# EAGLE library part 1X9PINROW_MALE (library Logicar Rev 2 Lib)
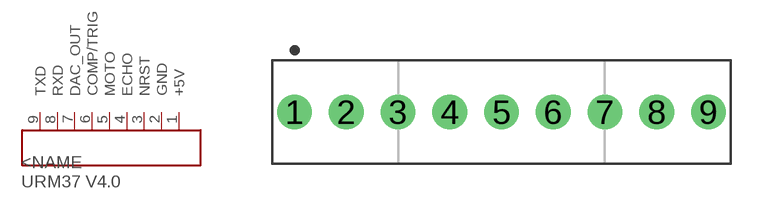
[diagram p4: symbol with the pads of HDRV9W64P254_1X9_1016X508X838B; footprint HDRV9W64P254_1X9_1016X508X838B]

Designator prefix -

## 1X9PINROW_MALE  [HDRV9W64P254_1X9_1016X508X838B]
1  +5V
2  GND
3  NRST
4  ECHO
5  MOTO
6  COMP/TRIG
7  DAC_OUT
8  RXD
9  TXD

## Footprint HDRV9W64P254_1X9_1016X508X838B (pad centres in mm)
Single-row, 9-pin Pin Header (Male) Straight, 2.54 mm (0.10 in) col pitch, 5.84 mm mating length, 10.16 X 5.08 X 8.38 mm body Single-row (1X9), 9-pin Pin Header (Male) Straight package with 2.54 mm (0.10 in) col pitch, 0.64 mm lead width, 3.00 mm tail length and 5.84 mm mating length with overall size 10.16 X 5.08 X 8.38 mm, pin pattern - clockwise from top left
drill 1.105 pad 1.705: 1 0,0; 2 2.54,0; 3 5.08,0; 4 7.62,0; 5 10.16,0; 6 12.7,0; 7 15.24,0; 8 17.78,0; 9 20.32,0